# Altium schematic symbol library MSP432P401RLaunchpad.SchLib: 1 symbol
Pins are listed as number, name and electrical type; pins without a type are passive.

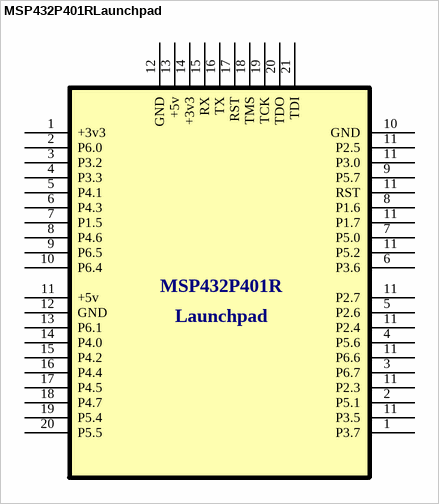
[diagram p0: symbol MSP432P401RLaunchpad]

## MSP432P401RLaunchpad
designator *  (value not drawn)
pins: 1 +3v3, 1 P3.7, 2 P6.0, 2 P5.1, 3 P3.2, 3 P6.7, 4 P3.3, 4 P5.6, 5 P4.1, 5 P2.6, 6 P4.3, 6 P3.6, 7 P1.5, 7 P5.0, 8 P4.6, 8 P1.6, 9 P6.5, 9 P5.7, 10 P6.4, 10 GND, 11 +5v, 11 P3.5, 11 P2.3, 11 P6.6, 11 P2.4, 11 P2.7, 11 P5.2, 11 P1.7, 11 RST, 11 P2.5, 11 P3.0, 12 GND, 12 GND, 13 P6.1, 13 +5v, 14 P4.0, 14 +3v3, 15 P4.2, 15 RX, 16 P4.4, 16 TX, 17 P4.5, 17 RST, 18 P4.7, 18 TMS, 19 P5.4, 19 TCK, 20 P5.5, 20 TDO, 21 TDI
text: MSP432P401R; Launchpad